# Altium footprint library QCW_GDT_PCB.PcbLib: 28 footprints (part 1 of 2)
Each footprint in its own frame and in the unit in brackets; x right, y up, seen from the top. Pads: shape width x height; smd on the part's side, far side on the other; paste and mask are expansions set on the pad; w line width, h text height; cw(c..) or ccw(c..) is an arc to the next point about the centre after c.
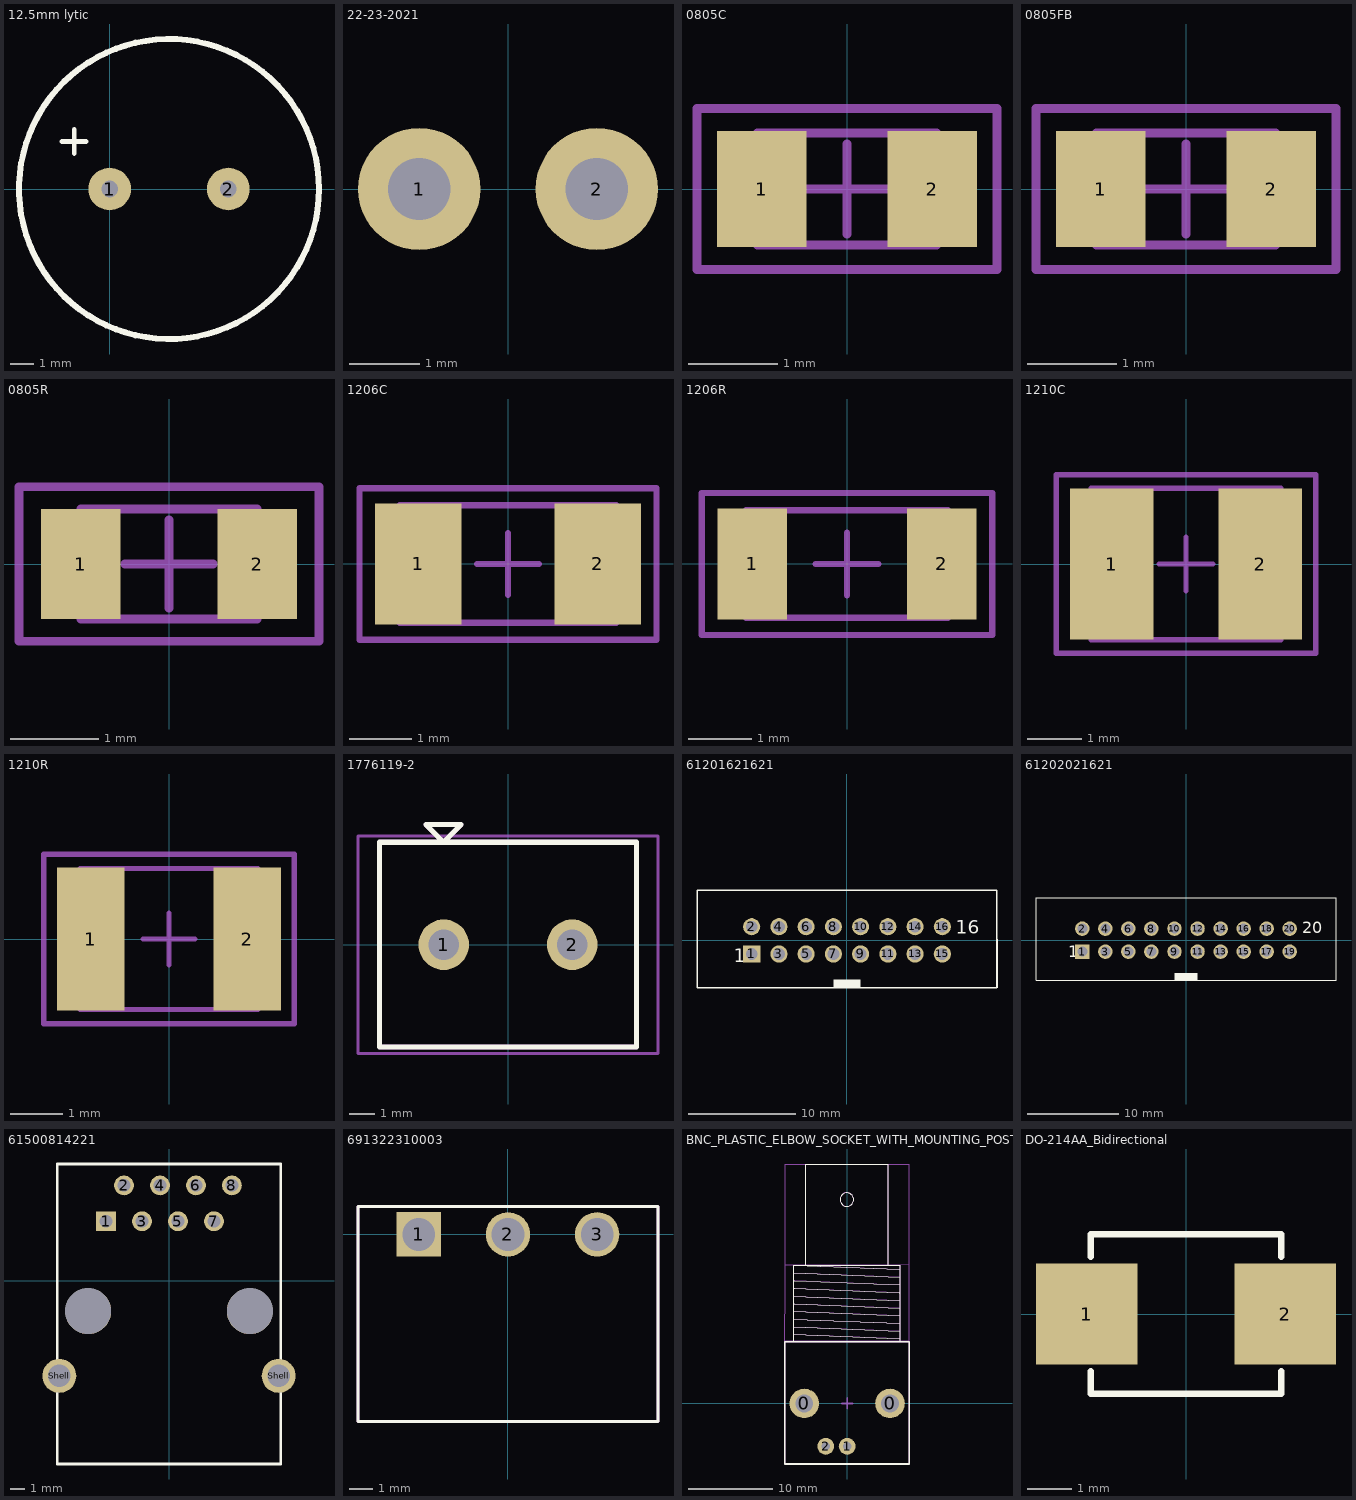
[diagram p0: the footprints below, top view; thin cyan lines are the x and y axes]

## 12.5mm lytic [mm]
pads (2):
  round 1.8 hole 0.7: 1(0,0) 2(5,0)
Top Overlay:
  circle w0.254: c2.5,0 r6.325
  lines w0.2: -2.016,2 -1,2 ; -1.5,1.5 -1.5,2.516
3D body "User Library-Cap-EL(12_5x20-5)T.step": height 20.5, standoff -3.5, extent -3.75,-6.25 8.752,6.211

## 22-23-2021 [mm]
pads (2):
  round 1.75 hole 0.889: 1(-1.27,0) 2(1.27,0)
3D body "022232021.STEP": height 10.58, standoff -3.64, extent -2.464,-3.251 2.464,3.099

## 0805C [mm]
pads (2):
  rect 1x1.3 smd: 1(-0.95,0) 2(0.95,0)
Mechanical 13:
  lines w0.1: -0.5,0 0.5,0 ; 0,-0.5 0,0.5 ; -1.675,-0.9 1.675,-0.9 1.675,0.9 -1.675,0.9 -1.675,-0.9 ; -1,-0.625 1,-0.625 1,0.625 -1,0.625 -1,-0.625
3D body "User Library-CAPC2012X___.step": height 0.57, standoff 0, extent -1.003,-0.604 0.997,0.666

## 0805FB [mm]
pads (2):
  rect 1x1.3 smd: 1(-0.95,0) 2(0.95,0)
Mechanical 13:
  lines w0.1: -0.5,0 0.5,0 ; 0,-0.5 0,0.5 ; -1.675,-0.9 -1.675,0.9 1.675,0.9 1.675,-0.9 -1.675,-0.9 ; -1,-0.625 -1,0.625 1,0.625 1,-0.625 -1,-0.625
3D body "User Library-FB_2012-1.STEP": height 0.85, standoff 0, extent -1.004,-0.604 0.997,0.646

## 0805R [mm]
pads (2):
  rect 0.9x1.25 smd: 1(-1,0) 2(1,0)
Mechanical 13:
  lines w0.1: -0.5,0 0.5,0 ; 0,-0.5 0,0.5 ; -1.7,-0.875 -1.7,0.875 1.7,0.875 1.7,-0.875 -1.7,-0.875 ; -1,-0.625 -1,0.625 1,0.625 1,-0.625 -1,-0.625
3D body "User Library-R_0805.step": height 0.5, standoff 0, extent -0.999,-0.619 1.001,0.631

## 1206C [mm]
pads (2):
  rect 1.4x1.95 smd: 1(-1.45,0) 2(1.45,0)
Mechanical 13:
  lines w0.1: -1.75,-0.95 1.75,-0.95 1.75,0.95 -1.75,0.95 -1.75,-0.95
Mechanical 15:
  lines w0.1: -0.5,0 0.5,0 ; 0,-0.5 0,0.5 ; -2.4,-1.225 2.4,-1.225 2.4,1.225 -2.4,1.225 -2.4,-1.225
3D body "User Library-C SMD 1206.step": height 0.94, standoff 0, extent -1.6,-0.8 1.6,0.8

## 1206R [mm]
pads (2):
  rect 1.1x1.75 smd: 1(-1.5,0) 2(1.5,0)
Mechanical 13:
  lines w0.1: -1.6,-0.85 -1.6,0.85 1.6,0.85 1.6,-0.85 -1.6,-0.85
Mechanical 15:
  lines w0.1: -0.5,0 0.5,0 ; 0,-0.5 0,0.5 ; -2.3,-1.125 -2.3,1.125 2.3,1.125 2.3,-1.125 -2.3,-1.125
3D body "User Library-R_1206.step": height 0.6, standoff 0, extent -1.6,-0.8 1.6,0.8

## 1210C [mm]
pads (2):
  rect 1.55x2.8 smd: 1(-1.375,0) 2(1.375,0)
Mechanical 13:
  lines w0.1: -1.75,-1.4 -1.75,1.4 1.75,1.4 1.75,-1.4 -1.75,-1.4
Mechanical 15:
  lines w0.1: -0.5,0 0.5,0 ; 0,-0.5 0,0.5 ; -2.4,-1.65 -2.4,1.65 2.4,1.65 2.4,-1.65 -2.4,-1.65
3D body "User Library-cap_1210.step": height 2.5, standoff 0, extent -1.6,-1.25 1.6,1.25

## 1210R [mm]
pads (2):
  rect 1.3x2.75 smd: 1(-1.5,0) 2(1.5,0)
Mechanical 13:
  lines w0.1: -1.7,-1.35 -1.7,1.35 1.7,1.35 1.7,-1.35 -1.7,-1.35
Mechanical 15:
  lines w0.1: -0.5,0 0.5,0 ; 0,-0.5 0,0.5 ; -2.4,-1.625 -2.4,1.625 2.4,1.625 2.4,-1.625 -2.4,-1.625
3D body "User Library-R_1210.step": height 0.6, standoff 0, extent -1.6,-1.25 1.6,1.25

## 1776119-2 [mm]
pads (2):
  round 2 hole 1.2: 1(-2.54,0) 2(2.54,0)
Top Overlay:
  lines w0.2: -5.08,-4.05 5.08,-4.05 5.08,4.05 -5.08,4.05 -5.08,-4.05 ; -3.25,4.75 -1.85,4.75 -2.55,4.05 -3.25,4.75
Mechanical 9:
  lines w0.2: -5.08,-4.05 -5.08,4.05 5.08,4.05 5.08,-4.05 -5.08,-4.05 ; -3.25,4.75 -2.55,4.05 -1.85,4.75 -3.25,4.75
  text ".Designator" at -4.75,2.75 h0.8
  text "Cable Entry / Side" at -4.25,-4.05 h0.8
Mechanical 16:
  lines w0.127: -5.93,-4.3 -5.93,4.3 5.93,4.3 5.93,-4.3 -5.93,-4.3
3D body "c-282837-2-g2-3d.stp": height 10.01, standoff -3.49, extent -5.01,-4.1 5.75,4.1

## 61201621621 [mm]
pads (16):
  rect 1.6x1.6 hole 1.1: 1(-8.89,-1.27)
  round 1.6 hole 1.1: 2(-8.89,1.27) 3(-6.35,-1.27) 4(-6.35,1.27) 5(-3.81,-1.27) 6(-3.81,1.27) 7(-1.27,-1.27) 8(-1.27,1.27) 9(1.27,-1.27) 10(1.27,1.27) 11(3.81,-1.27) 12(3.81,1.27) 13(6.35,-1.27) 14(6.35,1.27) 15(8.89,-1.27) 16(8.89,1.27)
Top Overlay:
  rectangle: -1.27,-4.425 1.27,-3.64
  lines w0.127: -13.99,-4.425 13.99,-4.425 ; -13.99,-4.425 -13.99,4.675 ; -13.99,-4.425 13.99,-4.425 ; -13.99,-4.425 -13.99,4.675 ; -13.99,4.675 13.99,4.675 ; -13.99,4.675 13.99,4.675 ; 13.99,-4.425 13.99,4.675 ; 13.99,-4.425 13.99,4.675
  text "1" at -10.541,-2.032 h1.27
  text "16" at 10.16,0.635 h1.27
3D body "61201621621.stp": height 9.13, standoff -2.98, extent -13.99,-4.425 13.99,4.75

## 61202021621 [mm]
pads (20):
  rect 1.6x1.6 hole 1.1: 1(-11.43,-1.27)
  round 1.6 hole 1.1: 2(-11.43,1.27) 3(-8.89,-1.27) 4(-8.89,1.27) 5(-6.35,-1.27) 6(-6.35,1.27) 7(-3.81,-1.27) 8(-3.81,1.27) 9(-1.27,-1.27) 10(-1.27,1.27) 11(1.27,-1.27) 12(1.27,1.27) 13(3.81,-1.27) 14(3.81,1.27) 15(6.35,-1.27) 16(6.35,1.27) 17(8.89,-1.27) 18(8.89,1.27) 19(11.43,-1.27) 20(11.43,1.27)
Top Overlay:
  rectangle: -1.27,-4.425 1.27,-3.64
  lines w0.127: -16.53,-4.425 -16.53,4.675 ; -16.53,-4.425 16.53,-4.425 ; -16.53,-4.425 -16.53,4.675 ; -16.53,-4.425 16.53,-4.425 ; -16.53,4.675 16.53,4.675 ; -16.53,4.675 16.53,4.675 ; 16.53,-4.425 16.53,4.675 ; 16.53,-4.425 16.53,4.675
  text "20" at 12.827,0.762 h1.27
  text "1" at -12.954,-1.905 h1.27
3D body "61202021621.stp": height 9.13, standoff -2.98, extent -16.53,-4.425 16.53,4.75

## 61500814221 [mm]
pads (12):
  rect 1.4x1.4 hole 0.9: 1(-4.445,4.19)
  round 1.4 hole 0.9: 2(-3.175,6.73) 3(-1.905,4.19) 4(-0.635,6.73) 5(0.635,4.19) 6(1.905,6.73) 7(3.175,4.19) 8(4.445,6.73)
  round 2.4 hole 1.6: Shell(-7.75,-6.73) Shell(7.75,-6.73)
  round 3.25 hole 3.25 unplated: ""(-5.715,-2.16) ""(5.715,-2.16)
Top Overlay:
  lines w0.2: -7.9,-12.96 7.9,-12.96 7.9,8.24 -7.9,8.24 -7.9,-12.96
3D body "61500814221.stp": height 13.65, standoff -3.95, extent -7.9,-12.959 7.9,8.241

## 691322310003 [mm]
pads (3):
  rect 1.9x1.9 hole 1.4: 1(-3.81,0)
  round 1.9 hole 1.4: 2(0,0) 3(3.81,0)
Top Overlay:
  lines w0.127: -6.41,-8 -6.41,1.2 6.41,1.2 6.41,-8 -6.41,-8
Mechanical 9:
  lines w0.127: -6.41,-8 6.41,-8 6.41,1.2 -6.41,1.2 -6.41,-8
  text ".Designator" at -6,-7.5 h0.8
3D body "691322310003.stp": height 7.21, standoff -3.49, extent -6.31,-8 6.31,1.2

## BNC_PLASTIC_ELBOW_SOCKET_WITH_MOUNTING_POSTS [mm]
pads (4):
  round 3.5 hole 2.1: 0(-5.08,0) 0(5.08,0)
  round 2 hole 1: 1(0,-5.08) 2(-2.54,-5.08)
Top Overlay:
  circle w0.1: c-0.03,24.15 r0.8
  lines w0.1: -6.355,16.4 6.22,15.9 ; -6.33,8.188 6.245,7.688 ; -6.305,7.425 -6.305,16.4 6.27,16.4 6.27,7.385 ; -6.305,9.063 6.27,8.563 ; -6.305,9.975 6.27,9.475 ; -6.305,10.9 6.27,10.4 ; -6.305,12.675 6.27,12.175 ; -6.305,15.475 6.27,14.975 ; -6.28,14.55 6.295,14.05 ; -6.255,11.8 6.32,11.3 ; -6.255,13.625 6.196,13.13 ; -4.88,16.4 -4.88,28.35 4.845,28.35 4.845,16.4
  lines w0.2: -7.38,-7.175 7.345,-7.175 7.345,7.3 -7.38,7.3 -7.38,-7.175
Mechanical 9:
  circle w0.1: c-0.03,24.175 r0.8
  lines w0.1: -6.355,16.425 6.22,15.925 ; -6.33,8.213 6.245,7.713 ; -6.305,7.45 -6.305,16.425 6.27,16.425 6.27,7.41 ; -6.305,9.088 6.27,8.588 ; -6.305,10 6.27,9.5 ; -6.305,10.925 6.27,10.425 ; -6.305,12.7 6.27,12.2 ; -6.305,15.5 6.27,15 ; -6.28,14.575 6.295,14.075 ; -6.255,11.825 6.32,11.325 ; -6.255,13.65 6.196,13.155 ; -4.88,16.425 -4.88,28.375 4.845,28.375 4.845,16.425
  lines w0.2: -7.38,-7.15 7.345,-7.15 7.345,7.325 -7.38,7.325 -7.38,-7.15
  text ".Designator" at 0.82,-0.2 h1
Mechanical 15:
  lines w0.1: -7.349,16.45 -6.305,16.45 6.295,16.425 7.345,16.475 ; -7.33,7.425 7.345,7.45 ; -7.366,-7.175 7.345,-7.175 7.345,28.35 -7.341,28.35 -7.366,-7.175
  lines w0.2: -0.635,0 0.635,0 ; 0,-0.635 0,0.635
3D body "9974.stp": height 15.85, standoff -4.25, extent -7.355,-7.15 7.345,28.35

## DO-214AA_Bidirectional [mm]
pads (2):
  rect 2.3x2.3 smd: 1(-2.25,0) 2(2.25,0)
Top Overlay:
  lines w0.152: -2.16,-1.3 -2.16,-1.81 2.16,-1.81 2.16,-1.3 ; -2.16,1.3 -2.16,1.81 2.16,1.81 2.16,1.3
3D body "DO-214AA_Bidirectional.stp": height 2.4, standoff 0.01, extent -2.7,-1.81 2.7,1.81